# EAGLE library part 8052 (library FiftyOneFunParts)
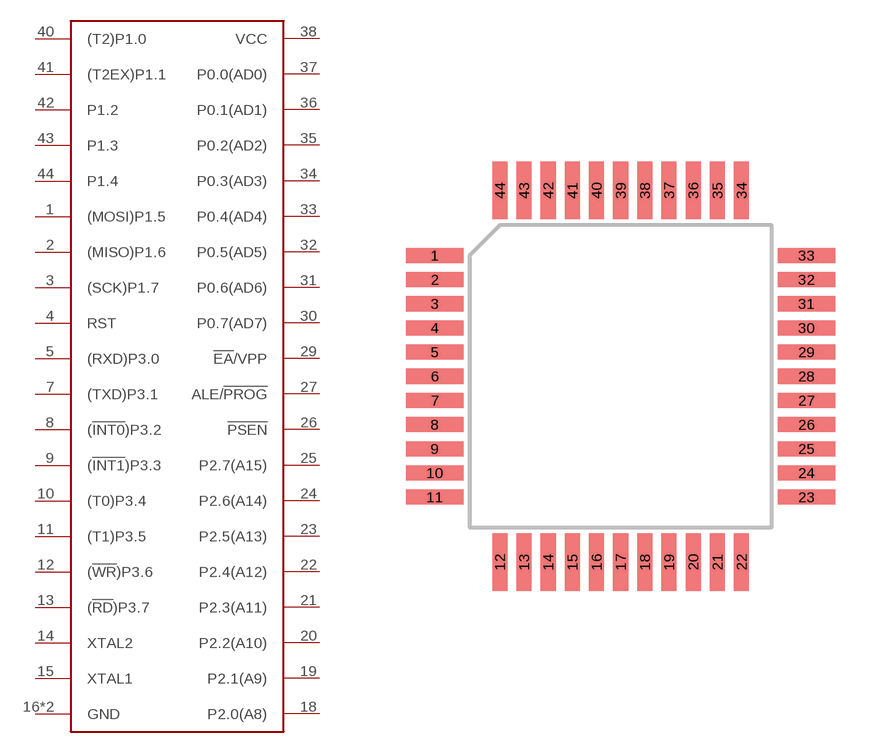
[diagram p7: symbol with the pads of 8052; footprint 8052]

Designator prefix -

## 8052  [8052]
1  (MOSI)P1.5
2  (MISO)P1.6
3  (SCK)P1.7
4  RST
5  (RXD)P3.0
7  (TXD)P3.1
8  (!INT0!)P3.2
9  (!INT1!)P3.3
10  (T0)P3.4
11  (T1)P3.5
12  (!WR!)P3.6
13  (!RD!)P3.7
14  XTAL2
15  XTAL1
16  GND
17  GND
18  P2.0(A8)
19  P2.1(A9)
20  P2.2(A10)
21  P2.3(A11)
22  P2.4(A12)
23  P2.5(A13)
24  P2.6(A14)
25  P2.7(A15)
26  !PSEN
27  ALE/!PROG
29  !EA!/VPP
30  P0.7(AD7)
31  P0.6(AD6)
32  P0.5(AD5)
33  P0.4(AD4)
34  P0.3(AD3)
35  P0.2(AD2)
36  P0.1(AD1)
37  P0.0(AD0)
38  VCC
40  (T2)P1.0
41  (T2EX)P1.1
42  P1.2
43  P1.3
44  P1.4

## Footprint 8052 (pad centres in mm)
smd 1.9 x 0.5: 1 -6.15,4; 2 -6.15,3.2; 3 -6.15,2.4; 4 -6.15,1.6; 5 -6.15,0.8; 6 -6.15,0; 7 -6.15,-0.8; 8 -6.15,-1.6; 9 -6.15,-2.4; 10 -6.15,-3.2; 11 -6.15,-4; 23 6.15,-4; 24 6.15,-3.2; 25 6.15,-2.4; 26 6.15,-1.6; 27 6.15,-0.8; 28 6.15,0; 29 6.15,0.8; 30 6.15,1.6; 31 6.15,2.4; 32 6.15,3.2; 33 6.15,4
smd 0.5 x 1.9: 12 -4,-6.15; 13 -3.2,-6.15; 14 -2.4,-6.15; 15 -1.6,-6.15; 16 -0.8,-6.15; 17 0,-6.15; 18 0.8,-6.15; 19 1.6,-6.15; 20 2.4,-6.15; 21 3.2,-6.15; 22 4,-6.15; 34 4,6.15; 35 3.2,6.15; 36 2.4,6.15; 37 1.6,6.15; 38 0.8,6.15; 39 0,6.15; 40 -0.8,6.15; 41 -1.6,6.15; 42 -2.4,6.15; 43 -3.2,6.15; 44 -4,6.15